# Altium schematic symbol library Mechanical_Devices.SchLib: 2 symbols
Pins are listed as number, name and electrical type; pins without a type are passive.

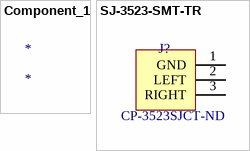
[diagram p0: symbols Component_1 to SJ-3523-SMT-TR]

## Component_1
designator *

## SJ-3523-SMT-TR
designator J?  Supplier Part Number 1: CP-3523SJCT-ND  (hidden comment: *)
CONN JACK STEREO 3.5MM SMD R/A; Supplier 1: Digi-Key
footprint CONN JACK STEREO 3.5MM SMD R/A
pins: 1 GND, 2 LEFT, 3 RIGHT